# EAGLE library part SG3525 (library ic)
SG3525: Pulse width modulator (STMicroelectronics) 8-35V, 100Hz-500kHz, internal reference
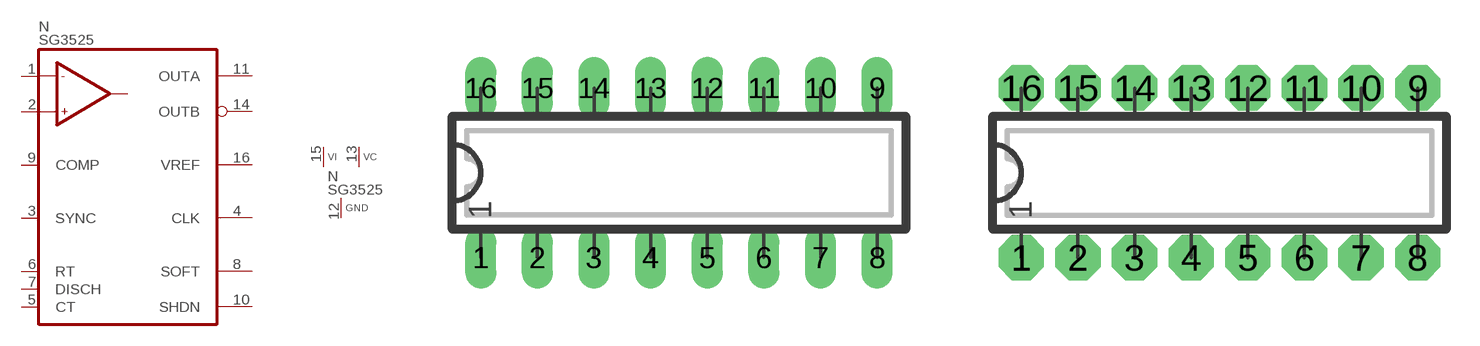
[diagram p93: symbol with the pads of DIP16L; footprints DIP16L, DIP16N]

Designator prefix N; gates  =SG3525 P=VSG3525

## SG3525  [DIP16L]
1   :IN-  in
2   :IN+  in
3   :SYNC  in
4   :CLK  out
5   :CT  pas
6   :RT  pas
7   :DISCH  pas
8   :SOFT
9   :COMP  pas
10   :SHDN
11   :OUTA  out
12  P:GND  pwr
13  P:VC  pwr
14   :OUTB  out
15  P:VI  pwr
16   :VREF  out

## SG3525L  [DIP16L]

## SG3525N  [DIP16N]

## SG3525R  [DIP16R]

## Footprint DIP16L (pad centres in mm)
DIP-16, long pads Standard IC package, 16 pins
drill 0.813 pad 1.397 long: 1 -8.89,-3.81; 2 -6.35,-3.81; 3 -3.81,-3.81; 4 -1.27,-3.81; 5 1.27,-3.81; 6 3.81,-3.81; 7 6.35,-3.81; 8 8.89,-3.81; 9 8.89,3.81; 10 6.35,3.81; 11 3.81,3.81; 12 1.27,3.81; 13 -1.27,3.81; 14 -3.81,3.81; 15 -6.35,3.81; 16 -8.89,3.81

## Footprint DIP16N (pad centres in mm)
DIP-16 Standard IC package, 16 pins
drill 0.813 pad 2.032 octagon: 1 -8.89,-3.81; 2 -6.35,-3.81; 3 -3.81,-3.81; 4 -1.27,-3.81; 5 1.27,-3.81; 6 3.81,-3.81; 7 6.35,-3.81; 8 8.89,-3.81; 9 8.89,3.81; 10 6.35,3.81; 11 3.81,3.81; 12 1.27,3.81; 13 -1.27,3.81; 14 -3.81,3.81; 15 -6.35,3.81; 16 -8.89,3.81

## Footprint DIP16R (pad centres in mm)
DIP-16, reduced pads Standard IC package, 16 pins
drill 0.813 pad 1.397 square: 1 -8.89,-3.81; 2 -6.35,-3.81; 3 -3.81,-3.81; 4 -1.27,-3.81; 5 1.27,-3.81; 6 3.81,-3.81; 7 6.35,-3.81; 8 8.89,-3.81; 9 8.89,3.81; 10 6.35,3.81; 11 3.81,3.81; 12 1.27,3.81; 13 -1.27,3.81; 14 -3.81,3.81; 15 -6.35,3.81; 16 -8.89,3.81